# Altium schematic symbol library STM32H523CEU6.SchLib: 1 symbol
Pins are listed as number, name and electrical type; pins without a type are passive.

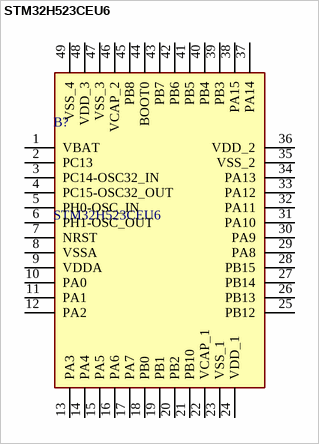
[diagram p0: symbol STM32H523CEU6]

## STM32H523CEU6
designator B?
ARM Microcontrollers - MCU High-performance Arm Cortex-M33 MCU 512-Kbyte Flash 272-Kbyte RAM 250 MHz CPU; Manufacturer_Name: STMicroelectronics; Geometry.Height: 0.6mm; Manufacturer_Part_Number: STM32H523CEU6; Mouser Part Number: 511-STM32H523CEU6; Mouser Price/Stock: https://www.mouser.co.uk/ProductDetail/STMicroelectronics/STM32H523CEU6?qs=ZcfC38r4Pot%2FWfU8ati%252BDA%3D%3D; Arrow Part Number: STM32H523CEU6; Arrow Price/Stock: https://www.arrow.com/en/products/stm32h523ceu6/stmicroelectronics?region=nac; Datasheet Link: https://www.arrow.com/en/products/stm32h523ceu6/stmicroelectronics?region=nac
footprint QFN50P700X700X60-49N-D
pins: 1 VBAT, 2 PC13, 3 PC14-OSC32_IN, 4 PC15-OSC32_OUT, 5 PH0-OSC_IN, 6 PH1-OSC_OUT, 7 NRST, 8 VSSA, 9 VDDA, 10 PA0, 11 PA1, 12 PA2, 13 PA3, 14 PA4, 15 PA5, 16 PA6, 17 PA7, 18 PB0, 19 PB1, 20 PB2, 21 PB10, 22 VCAP_1, 23 VSS_1, 24 VDD_1, 25 PB12, 26 PB13, 27 PB14, 28 PB15, 29 PA8, 30 PA9, 31 PA10, 32 PA11, 33 PA12, 34 PA13, 35 VSS_2, 36 VDD_2, 37 PA14, 38 PA15, 39 PB3, 40 PB4, 41 PB5, 42 PB6, 43 PB7, 44 BOOT0, 45 PB8, 46 VCAP_2, 47 VSS_3, 48 VDD_3, 49 VSS_4